# Altium footprint library MergenElektronik_FuseHolders_BladeType.PcbLib: 1 footprints
Each footprint in its own frame and in the unit in brackets; x right, y up, seen from the top. Pads: shape width x height; smd on the part's side, far side on the other; paste and mask are expansions set on the pad; w line width, h text height; cw(c..) or ccw(c..) is an arc to the next point about the centre after c.
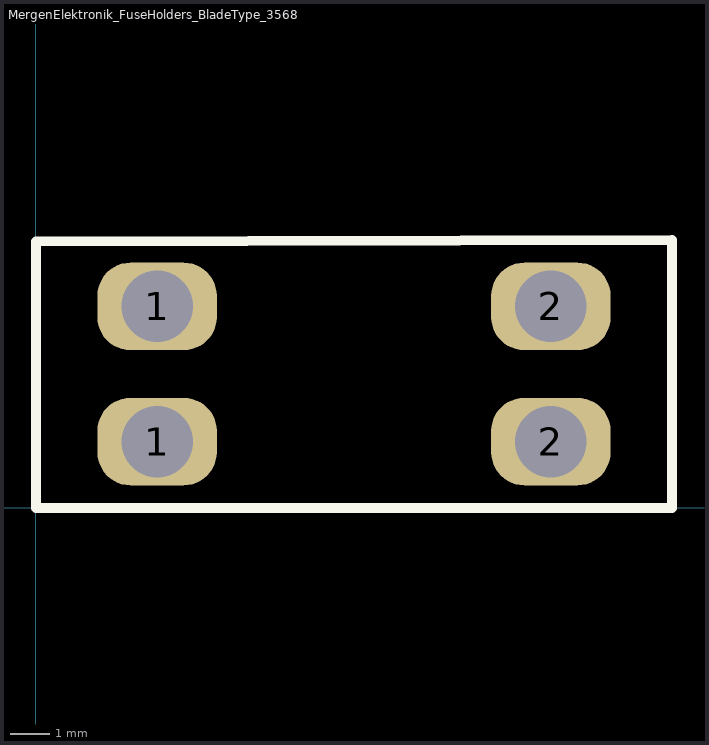
[diagram p0: the footprint, top view; thin cyan lines are the x and y axes]

## MergenElektronik_FuseHolders_BladeType_3568 [mm] "3568"
pads (4):
  rrect75% 3x2.2 hole 1.8: 1(3.05,1.665) 1(3.05,5.065) 2(12.95,1.665) 2(12.95,5.065)
Top Overlay:
  lines w0.254: 16,6.7 16,0 0,0 0,6.7 16,6.73
3D body: height 7.36, standoff -2.8, extent -0.101,0 15.901,6.731